# EAGLE library part CDC337 (library TEABOX-LIB)
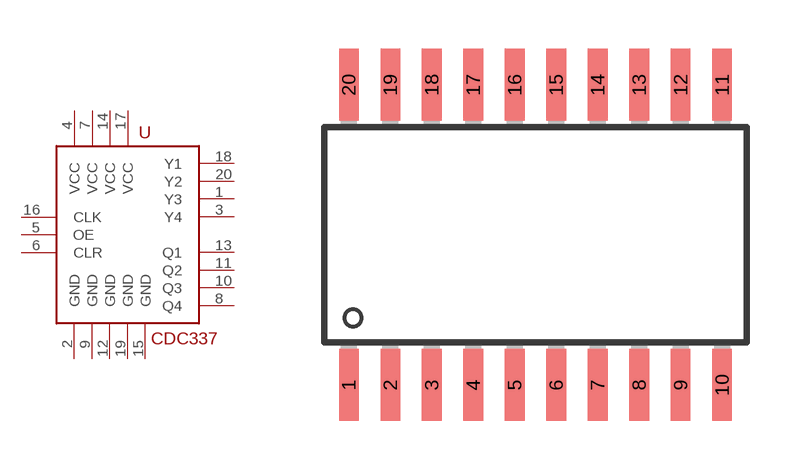
[diagram p7: symbol with the pads of SO-20DW; footprint SO-20DW]

Designator prefix U

## CDC337  [SO-20DW]
1  Y3  out
2  GND  pwr
3  Y4  out
4  VCC  pwr
5  OE  in
6  CLR  in
7  VCC  pwr
8  Q4  out
9  GND  pwr
10  Q3  out
11  Q2  out
12  GND  pwr
13  Q1  out
14  VCC  pwr
15  GND  pwr
16  CLK  in
17  VCC  pwr
18  Y1  out
19  GND  pwr
20  Y2  out

## Footprint SO-20DW (pad centres in mm)
Small Outline Integrated Circuit wide
smd 0.6 x 2.2: 1 -5.715,-4.6; 2 -4.445,-4.6; 3 -3.175,-4.6; 4 -1.905,-4.6; 5 -0.635,-4.6; 6 0.635,-4.6; 7 1.905,-4.6; 8 3.175,-4.6; 9 4.445,-4.6; 10 5.715,-4.6; 11 5.715,4.6; 12 4.445,4.6; 13 3.175,4.6; 14 1.905,4.6; 15 0.635,4.6; 16 -0.635,4.6; 17 -1.905,4.6; 18 -3.175,4.6; 19 -4.445,4.6; 20 -5.715,4.6